# Altium schematic symbol library 7SEG.SchLib: 1 symbol
Pins are listed as number, name and electrical type; pins without a type are passive.

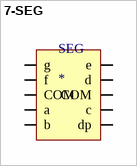
[diagram p0: symbol 7-SEG]

## 7-SEG
designator SEG
footprint 7seg
pins: 1 g, 2 f, 3 COM, 4 a, 5 b, 6 dp, 7 c, 8 COM, 9 d, 10 e